# Altium schematic symbol library Maxim Amplifiers and Comparators.SchLib: 420 symbols (part 7 of 16)
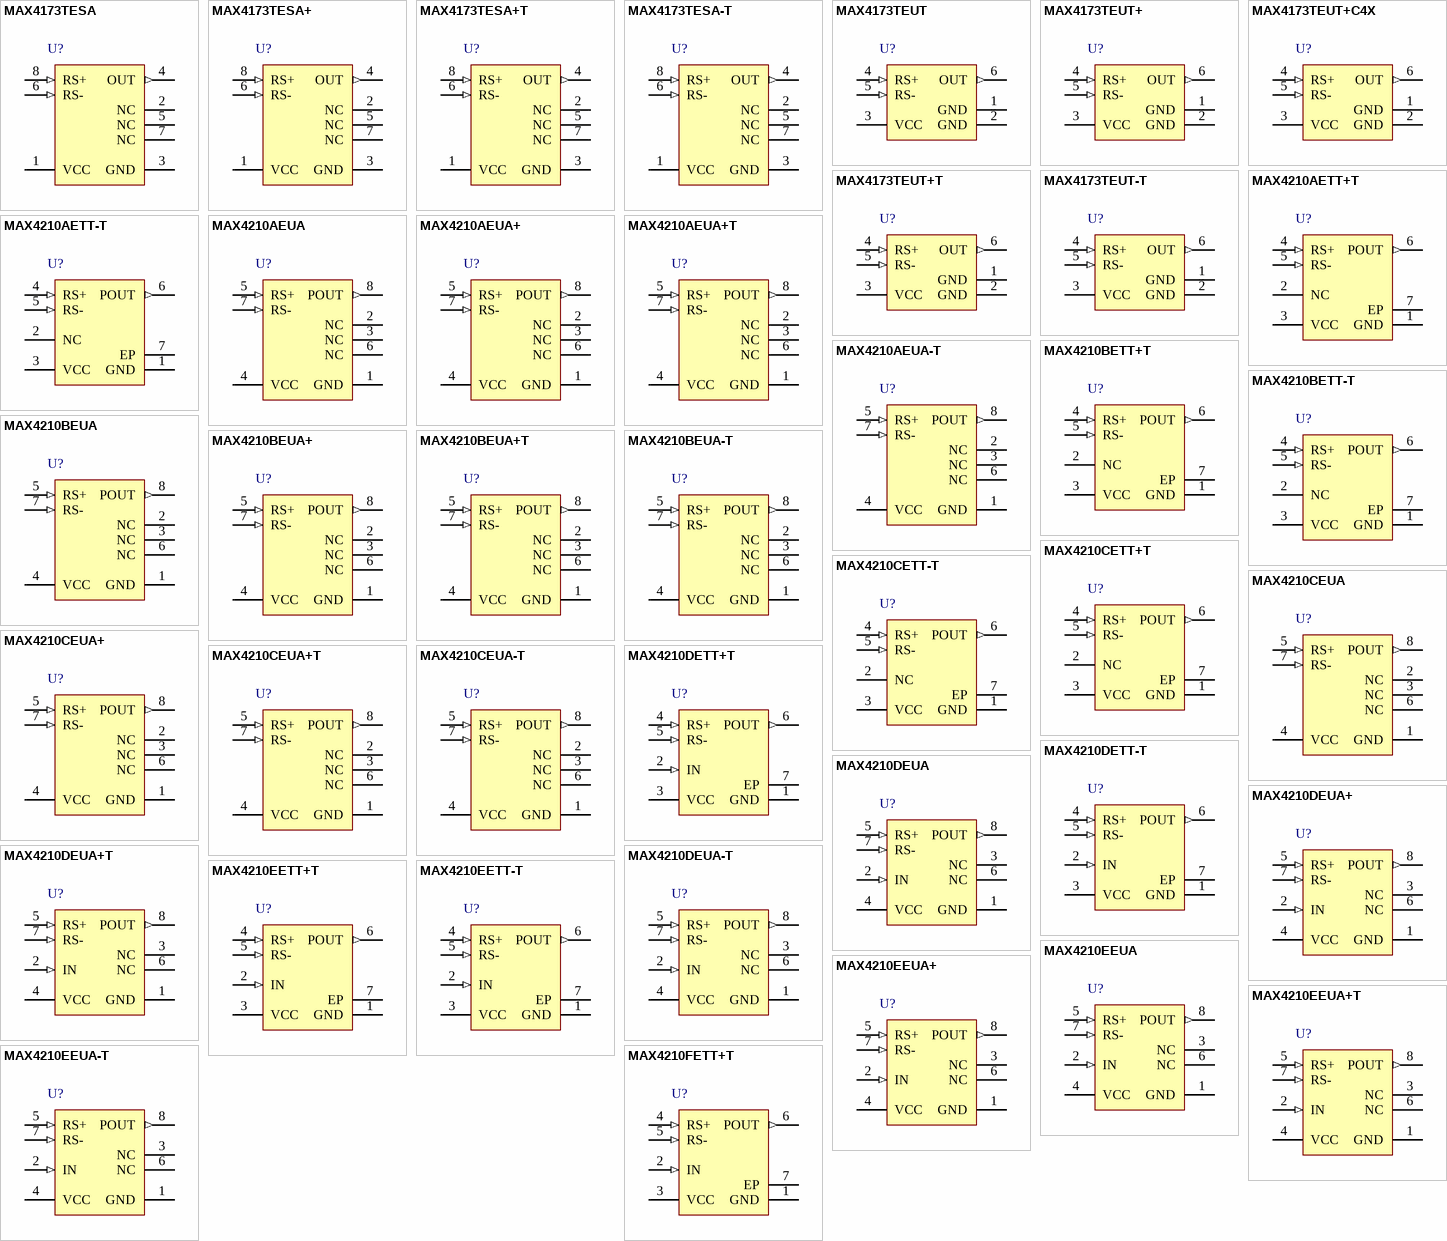
[diagram p16: symbols MAX4173TESA to MAX4210FETT+T]

## MAX4210EEUA-T
designator U?
High-Side, Power and Current Monitor, 25 V / V Gain, -40 to 85 degC, 8-Pin SOP (U8-1), Tape and Reel; Generic Part Number: MAX4210; PartNumber: MAX4210EEUA-T; Bi-Dir. Curr. Sense: No; Gain: 16.67 V/V, 25 V/V ,40.96 V/V; DatasheetVersion: Rev. 1; PackageVersion: Rev. L, 08/2009; PackageReference: U8-1; PackageDescription: 8-Pin Micro-MAX, Thin Shrink Small-Outline (U8-1), Body 3 x 3 mm, Pitch 0.65mm; Supplier 1: Digi-Key; Supplier Part Number 1: MAX4210EEUA-T-ND; Supplier 2: Mouser; Supplier Part Number 2: 700-MAX4210EEUA-T-NR; Packing: Tape and Reel; Mounting Technology: Surface Mount; Code_JEDEC: MO-187; ComponentLink1Description: Manufacturer URL; ComponentLink1URL: http://www.maximintegrated.com/; ComponentLink2Description: Datasheet; ComponentLink2URL: http://datasheets.maximintegrated.com/en/ds/MAX4210-MAX4211.pdf; ComponentLink3Description: Package Specification; ComponentLink3URL: http://pdfserv.maximintegrated.com/package_dwgs/21-0036.PDF
footprint MAXM-U8-1_N (SOP, 8-Leads, Body 3x3mm, Pitch 0.65mm, IPC Medium Density)
footprint MAXM-U8-1_L (SOP, 8-Leads, Body 3x3mm, Pitch 0.65mm, IPC High Density)
footprint MAXM-U8-1_M (SOP, 8-Leads, Body 3x3mm, Pitch 0.65mm, IPC Low Density)
pins: 1 GND (power) "Ground", 2 IN (in) "Multiplier Input Voltage. Voltage input for internal multiplier.", 3 NC "No Connection. Not internally connected.", 4 VCC (power) "Power-Supply Voltage. Connect a 0.1uF bypass capacitor from VCC to GND.", 5 RS+ (in) "Power Connection to External-Sense Resistor", 6 NC "No Connection. Not internally connected.", 7 RS- (in) "Load-Side Connection for External-Sense Resistor", 8 POUT (out) "Power Output Voltage. Voltage output proportional to source power (input voltage multiplied by load current)."

## MAX4210FETT+T
designator U?
High-Side, Power + Current Monitor, 40.96 V / V Gain, -40 to 85 degC, 6-Pin SON (T633+2), Pb-Free, Tape and Reel; Generic Part Number: MAX4210; PartNumber: MAX4210FETT+T; Bi-Dir. Curr. Sense: No; Gain: 16.67 V/V, 25 V/V ,40.96 V/V; DatasheetVersion: Rev. 1; PackageVersion: Rev. J, 08/2009; PackageReference: T633+2; PackageDescription: 6-Pin Plastic Very Very Thin Dual Flatpack No Leads, Exposed Pad, Body 3 x 3 mm, Exposed Pad 2.3 x 1.5 mm, Pitch 0.95 mm; Supplier 1: Digi-Key; Supplier Part Number 1: MAX4210FETT+T-ND; Supplier 2: Mouser; Supplier Part Number 2: 700-MAX4210FETTT; Packing: Tape and Reel; RoHS: Pb-Free; Mounting Technology: Surface Mount; Code_JEDEC: MO-229; ComponentLink1Description: Manufacturer URL; ComponentLink1URL: http://www.maximintegrated.com/; ComponentLink2Description: Datasheet; ComponentLink2URL: http://datasheets.maximintegrated.com/en/ds/MAX4210-MAX4211.pdf; ComponentLink3Description: Package Specification; ComponentLink3URL: http://pdfserv.maximintegrated.com/package_dwgs/21-0137.PDF
footprint MAXM-T633+2_V (SON, 6-Leads, Body 3x3mm, Pitch 0.95mm, Thermal Pad 2.3X1.5mm)
pins: 1 GND (power) "Ground", 2 IN (in) "Multiplier Input Voltage. Voltage input for internal multiplier.", 3 VCC (power) "Power-Supply Voltage. Connect a 0.1uF bypass capacitor from VCC to GND.", 4 RS+ (in) "Power Connection to External-Sense Resistor", 5 RS- (in) "Load-Side Connection for External-Sense Resistor", 6 POUT (out) "Power Output Voltage. Voltage output proportional to source power (input voltage multiplied by load current).", 7 EP (power) "Exposed Paddle. EP is internally connected to GND."

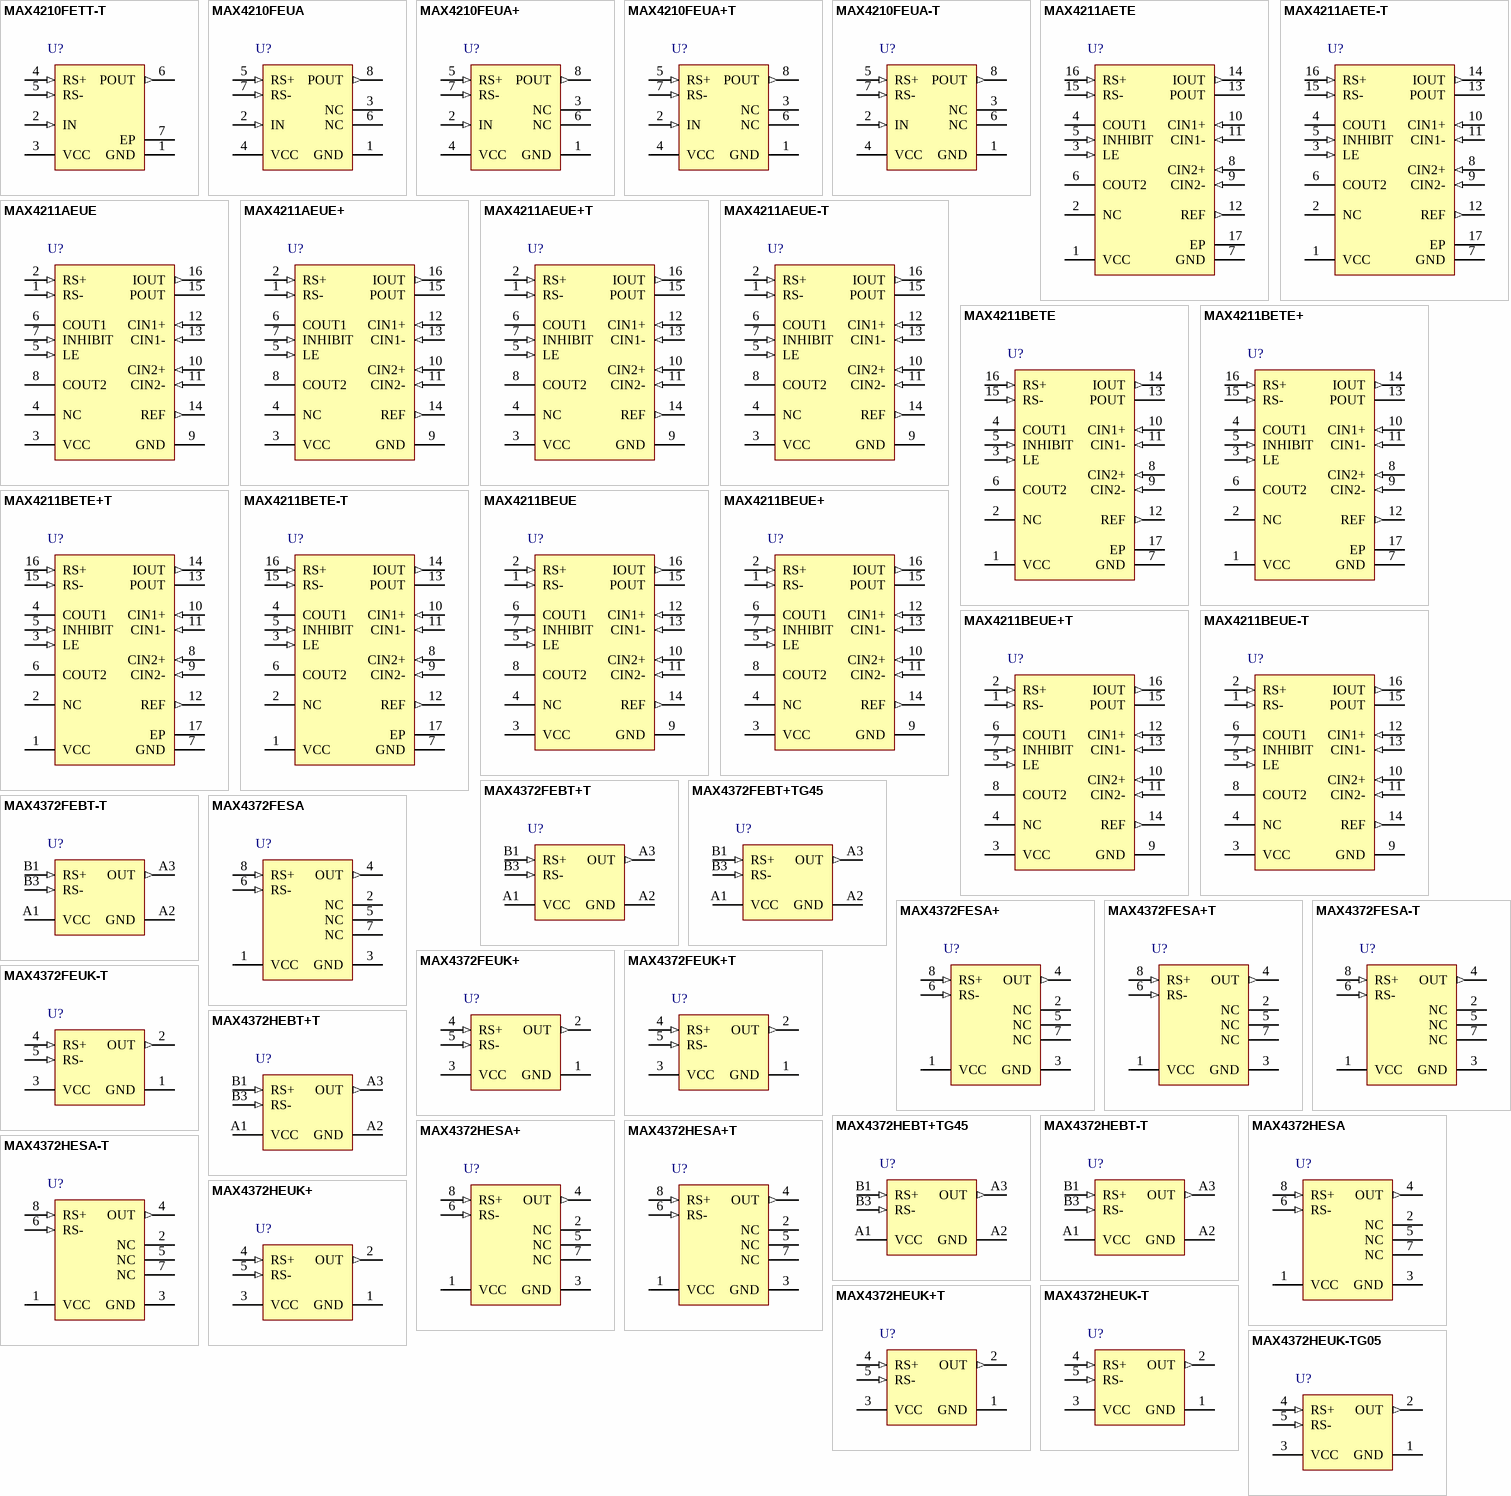
[diagram p4: symbols MAX4210FETT-T to MAX4372HEUK-TG05]

## MAX4210FETT-T
designator U?
High-Side, Power + Current Monitor, 40.96 V / V Gain, -40 to 85 degC, 6-Pin SON (T633-2), Tape and Reel; Generic Part Number: MAX4210; PartNumber: MAX4210FETT-T; Bi-Dir. Curr. Sense: No; Gain: 16.67 V/V, 25 V/V ,40.96 V/V; DatasheetVersion: Rev. 1; PackageVersion: Rev. J, 08/2009; PackageReference: T633-2; PackageDescription: 6-Pin Plastic Very Very Thin Dual Flatpack No Leads, Exposed Pad, Body 3 x 3 mm, Exposed Pad 2.3 x 1.5 mm, Pitch 0.95 mm; Supplier 1: Digi-Key; Supplier Part Number 1: MAX4210FETT-T-ND; Supplier 2: Mouser; Supplier Part Number 2: 700-MAX4210FETT-T-NR; Packing: Tape and Reel; Mounting Technology: Surface Mount; Code_JEDEC: MO-229; ComponentLink1Description: Manufacturer URL; ComponentLink1URL: http://www.maximintegrated.com/; ComponentLink2Description: Datasheet; ComponentLink2URL: http://datasheets.maximintegrated.com/en/ds/MAX4210-MAX4211.pdf; ComponentLink3Description: Package Specification; ComponentLink3URL: http://pdfserv.maximintegrated.com/package_dwgs/21-0137.PDF
footprint MAXM-T633-2_V (SON, 6-Leads, Body 3x3mm, Pitch 0.95mm, Thermal Pad 1.5x2.3mm)
pins: 1 GND (power) "Ground", 2 IN (in) "Multiplier Input Voltage. Voltage input for internal multiplier.", 3 VCC (power) "Power-Supply Voltage. Connect a 0.1uF bypass capacitor from VCC to GND.", 4 RS+ (in) "Power Connection to External-Sense Resistor", 5 RS- (in) "Load-Side Connection for External-Sense Resistor", 6 POUT (out) "Power Output Voltage. Voltage output proportional to source power (input voltage multiplied by load current).", 7 EP (power) "Exposed Paddle. EP is internally connected to GND."

## MAX4210FEUA
designator U?
High-Side, Power + Current Monitor, 40.96 V / V Gain, -40 to 85 degC, 8-Pin SOP (U8-1); Generic Part Number: MAX4210; PartNumber: MAX4210FEUA; Bi-Dir. Curr. Sense: No; Gain: 16.67 V/V, 25 V/V, 40.96 V/V; DatasheetVersion: Rev. 1; PackageVersion: Rev. L, 08/2009; PackageReference: U8-1; PackageDescription: 8-Pin Micro-MAX, Thin Shrink Small-Outline (U8-1), Body 3 x 3 mm, Pitch 0.65mm; Supplier 1: Digi-Key; Supplier Part Number 1: MAX4210FEUA-ND; Supplier 2: Mouser; Supplier Part Number 2: 700-MAX4210FEUA-NR; Mounting Technology: Surface Mount; Code_JEDEC: MO-187; ComponentLink1Description: Manufacturer URL; ComponentLink1URL: http://www.maximintegrated.com/; ComponentLink2Description: Datasheet; ComponentLink2URL: http://datasheets.maximintegrated.com/en/ds/MAX4210-MAX4211.pdf; ComponentLink3Description: Package Specification; ComponentLink3URL: http://pdfserv.maximintegrated.com/package_dwgs/21-0036.PDF
footprint MAXM-U8-1_N (SOP, 8-Leads, Body 3x3mm, Pitch 0.65mm, IPC Medium Density)
footprint MAXM-U8-1_L (SOP, 8-Leads, Body 3x3mm, Pitch 0.65mm, IPC High Density)
footprint MAXM-U8-1_M (SOP, 8-Leads, Body 3x3mm, Pitch 0.65mm, IPC Low Density)
pins: 1 GND (power) "Ground", 2 IN (in) "Multiplier Input Voltage. Voltage input for internal multiplier.", 3 NC "No Connection. Not internally connected.", 4 VCC (power) "Power-Supply Voltage. Connect a 0.1uF bypass capacitor from VCC to GND.", 5 RS+ (in) "Power Connection to External-Sense Resistor", 6 NC "No Connection. Not internally connected.", 7 RS- (in) "Load-Side Connection for External-Sense Resistor", 8 POUT (out) "Power Output Voltage. Voltage output proportional to source power (input voltage multiplied by load current)."

## MAX4210FEUA+
designator U?
High-Side, Power + Current Monitor, 40.96 V / V Gain, -40 to 85 degC, 8-Pin SOP (U8+1), Pb-Free; PartNumber: MAX4210FEUA+; Bi-Dir. Curr. Sense: No; Gain: 16.67 V/V, 25 V/V ,40.96 V/V; DatasheetVersion: Rev. 1; PackageVersion: Rev. L, 08/2009; PackageReference: U8+1; PackageDescription: 8-Pin Micro-MAX, Thin Shrink Small-Outline (U8+1), Body 3 x 3 mm, Pitch 0.65 mm; Supplier 1: Digi-Key; Supplier Part Number 1: MAX4210FEUA+-ND; Supplier 2: Mouser; Supplier Part Number 2: 700-MAX4210FEUA; Mounting Technology: Surface Mount; Code_JEDEC: MO-187; ComponentLink1Description: Manufacturer URL; ComponentLink1URL: http://www.maximintegrated.com/; ComponentLink2Description: Datasheet; ComponentLink2URL: http://datasheets.maximintegrated.com/en/ds/MAX4210-MAX4211.pdf; ComponentLink3Description: Package Specification; ComponentLink3URL: http://pdfserv.maximintegrated.com/package_dwgs/21-0036.PDF
footprint MAXM-U8+1_N (SOP, 8-Leads, Body 3x3mm, Pitch 0.65mm, IPC Medium Density)
footprint MAXM-U8+1_L (SOP, 8-Leads, Body 3x3mm, Pitch 0.65mm, IPC High Density)
footprint MAXM-U8+1_M (SOP, 8-Leads, Body 3x3mm, Pitch 0.65mm, IPC Low Density)
pins: 1 GND (power) "Ground", 2 IN (in) "Multiplier Input Voltage. Voltage input for internal multiplier.", 3 NC "No Connection. Not internally connected.", 4 VCC (power) "Power-Supply Voltage. Connect a 0.1uF bypass capacitor from VCC to GND.", 5 RS+ (in) "Power Connection to External-Sense Resistor", 6 NC "No Connection. Not internally connected.", 7 RS- (in) "Load-Side Connection for External-Sense Resistor", 8 POUT (out) "Power Output Voltage. Voltage output proportional to source power (input voltage multiplied by load current)."

## MAX4210FEUA+T
designator U?
High-Side, Power + Current Monitor, 40.96 V / V Gain, -40 to 85 degC, 8-Pin SOP (U8+1), Pb-Free, Tape and Reel; PartNumber: MAX4210FEUA+T; Bi-Dir. Curr. Sense: No; Gain: 16.67 V/V, 25 V/V ,40.96 V/V; DatasheetVersion: Rev. 1; PackageVersion: Rev. L, 08/2009; PackageReference: U8+1; PackageDescription: 8-Pin Micro-MAX, Thin Shrink Small-Outline (U8+1), Body 3 x 3 mm, Pitch 0.65 mm; Supplier 1: Digi-Key; Supplier Part Number 1: MAX4210FEUA+T-ND; Supplier 2: Mouser; Supplier Part Number 2: 700-MAX4210FEUAT; Mounting Technology: Surface Mount; Code_JEDEC: MO-187; ComponentLink1Description: Manufacturer URL; ComponentLink1URL: http://www.maximintegrated.com/; ComponentLink2Description: Datasheet; ComponentLink2URL: http://datasheets.maximintegrated.com/en/ds/MAX4210-MAX4211.pdf; ComponentLink3Description: Package Specification; ComponentLink3URL: http://pdfserv.maximintegrated.com/package_dwgs/21-0036.PDF
footprint MAXM-U8+1_N (SOP, 8-Leads, Body 3x3mm, Pitch 0.65mm, IPC Medium Density)
footprint MAXM-U8+1_L (SOP, 8-Leads, Body 3x3mm, Pitch 0.65mm, IPC High Density)
footprint MAXM-U8+1_M (SOP, 8-Leads, Body 3x3mm, Pitch 0.65mm, IPC Low Density)
pins: 1 GND (power) "Ground", 2 IN (in) "Multiplier Input Voltage. Voltage input for internal multiplier.", 3 NC "No Connection. Not internally connected.", 4 VCC (power) "Power-Supply Voltage. Connect a 0.1uF bypass capacitor from VCC to GND.", 5 RS+ (in) "Power Connection to External-Sense Resistor", 6 NC "No Connection. Not internally connected.", 7 RS- (in) "Load-Side Connection for External-Sense Resistor", 8 POUT (out) "Power Output Voltage. Voltage output proportional to source power (input voltage multiplied by load current)."

## MAX4210FEUA-T
designator U?
High-Side, Power + Current Monitor, 40.96 V / V Gain, -40 to 85 degC, 8-Pin SOP (U8-1), Tape and Reel; PartNumber: MAX4210FEUA-T; Bi-Dir. Curr. Sense: No; Gain: 16.67 V/V, 25 V/V ,40.96 V/V; DatasheetVersion: Rev. 1; PackageVersion: Rev. L, 08/2009; PackageReference: U8-1; PackageDescription: 8-Pin Micro-MAX, Thin Shrink Small-Outline (U8-1), Body 3 x 3 mm, Pitch 0.65mm; Supplier 1: Digi-Key; Supplier Part Number 1: MAX4210FEUA-T-ND; Supplier 2: Mouser; Supplier Part Number 2: 700-MAX4210FEUA-T-NR; Mounting Technology: Surface Mount; Code_JEDEC: MO-187; ComponentLink1Description: Manufacturer URL; ComponentLink1URL: http://www.maximintegrated.com/; ComponentLink2Description: Datasheet; ComponentLink2URL: http://datasheets.maximintegrated.com/en/ds/MAX4210-MAX4211.pdf; ComponentLink3Description: Package Specification; ComponentLink3URL: http://pdfserv.maximintegrated.com/package_dwgs/21-0036.PDF
footprint MAXM-U8-1_N (SOP, 8-Leads, Body 3x3mm, Pitch 0.65mm, IPC Medium Density)
footprint MAXM-U8-1_L (SOP, 8-Leads, Body 3x3mm, Pitch 0.65mm, IPC High Density)
footprint MAXM-U8-1_M (SOP, 8-Leads, Body 3x3mm, Pitch 0.65mm, IPC Low Density)
pins: 1 GND (power) "Ground", 2 IN (in) "Multiplier Input Voltage. Voltage input for internal multiplier.", 3 NC "No Connection. Not internally connected.", 4 VCC (power) "Power-Supply Voltage. Connect a 0.1uF bypass capacitor from VCC to GND.", 5 RS+ (in) "Power Connection to External-Sense Resistor", 6 NC "No Connection. Not internally connected.", 7 RS- (in) "Load-Side Connection for External-Sense Resistor", 8 POUT (out) "Power Output Voltage. Voltage output proportional to source power (input voltage multiplied by load current)."

## MAX4211AETE
designator U?
High-Side, Power + Current Monitor with 2 Comparators + Reference, 16.67 V / V Gain, -40 to 85 degC, 16-Pin QFN (T1644-4); PartNumber: MAX4211AETE; Bi-Dir. Curr. Sense: No; Gain: 16.67 V/V, 25 V/V ,40.96 V/V; DatasheetVersion: Rev. 1; PackageVersion: Rev. L, 04/2012; PackageReference: T1644-4; PackageDescription: 16-Pin Thin Quad Flatpack, No Leads (T1644-4), Body 4 x 4 mm, Pitch 0.65 mm; Supplier 1: Digi-Key; Supplier Part Number 1: MAX4211AETE-ND; Supplier 2: Mouser; Supplier Part Number 2: 700-MAX4211AETE-; Mounting Technology: Surface Mount; Code_JEDEC: MO220; ComponentLink1Description: Manufacturer URL; ComponentLink1URL: http://www.maximintegrated.com/; ComponentLink2Description: Datasheet; ComponentLink2URL: http://datasheets.maximintegrated.com/en/ds/MAX4210-MAX4211.pdf; ComponentLink3Description: Package Specification; ComponentLink3URL: http://pdfserv.maximintegrated.com/package_dwgs/21-0139.PDF
footprint MAXM-T1644-4_N (QFN, 16-Leads, Body 4x4mm, Pitch 0.65mm, Thermal Pad 2.1x2.1mm, IPC Medium Density)
footprint MAXM-T1644-4_L (QFN, 16-Leads, Body 4x4mm, Pitch 0.65mm, Thermal Pad 2.1x2.1mm, IPC High Density)
footprint MAXM-T1644-4_M (QFN, 16-Leads, Body 4x4mm, Pitch 0.65mm, Thermal Pad 2.1x2.1mm, IPC Low Density)
pins: 1 VCC (power) "Power-Supply Voltage. Connect a 0.1µF bypass capacitor from VCC to GND.", 2 NC "No Connection. Not internally connected.", 3 LE (in) "Latch Enable for Comparator 1. Driving logic low makes the comparator transparent (regular comparator). Driving logic high latches the output.", 4 COUT1 (oc) "Open- Drain Comparator 1 Output. LE  and  INHIBIT control  the comparator 1 output.", 5 INHIBIT (in) "INHIBIT for Comparator 1 Output. Driving logic high inhibits the comparator operation. Drive logic low for normal operation.", 6 COUT2 (oc) "Open-Drain Comparator 2 Output", 7 GND (power) "Ground", 8 CIN2+ (in) "Comparator 2 Positive Input", 9 CIN2- (in) "Comparator 2 Negative Input", 10 CIN1+ (in) "Comparator 1 Positive Input", 11 CIN1- (in) "Comparator 1 Negative Input", 12 REF (out) "1.21V Internal Reference Output", 13 POUT (power) "Power Output Voltage. Voltage output proportional to source power (input voltage multiplied by load current).", 14 IOUT (out) "Current Output Voltage. Voltage output proportional to VSENSE (VRS+ - VRS-) load current.", 15 RS- (in) "Load-Side Connection for External-Sense Resistor", 16 RS+ (in) "Power Connection to External-Sense Resistor and Internal Resistor-Divider", 17 EP (power) "Exposed Paddle. EP is internally connected to GND."

## MAX4211AETE-T
designator U?
High-Side, Power + Current Monitor with 2 Comparators + Reference, 16.67 V / V Gain, -40 to 85 degC, 16-Pin QFN (T1644-4), Tape and Reel; PartNumber: MAX4211AETE-T; Bi-Dir. Curr. Sense: No; Gain: 16.67 V/V, 25 V/V ,40.96 V/V; DatasheetVersion: Rev. 1; PackageVersion: Rev. L, 04/2012; PackageReference: T1644-4; PackageDescription: 16-Pin Thin Quad Flatpack, No Leads (T1644-4), Body 4 x 4 mm, Pitch 0.65 mm; Supplier 1: Digi-Key; Supplier Part Number 1: MAX4211AETE-T-ND; Supplier 2: Mouser; Supplier Part Number 2: 700-MAX4211AETE-T-; Mounting Technology: Surface Mount; Code_JEDEC: MO220; ComponentLink1Description: Manufacturer URL; ComponentLink1URL: http://www.maximintegrated.com/; ComponentLink2Description: Datasheet; ComponentLink2URL: http://datasheets.maximintegrated.com/en/ds/MAX4210-MAX4211.pdf; ComponentLink3Description: Package Specification; ComponentLink3URL: http://pdfserv.maximintegrated.com/package_dwgs/21-0139.PDF
footprint MAXM-T1644-4_N (QFN, 16-Leads, Body 4x4mm, Pitch 0.65mm, Thermal Pad 2.1x2.1mm, IPC Medium Density)
footprint MAXM-T1644-4_L (QFN, 16-Leads, Body 4x4mm, Pitch 0.65mm, Thermal Pad 2.1x2.1mm, IPC High Density)
footprint MAXM-T1644-4_M (QFN, 16-Leads, Body 4x4mm, Pitch 0.65mm, Thermal Pad 2.1x2.1mm, IPC Low Density)
pins: 1 VCC (power) "Power-Supply Voltage. Connect a 0.1µF bypass capacitor from VCC to GND.", 2 NC "No Connection. Not internally connected.", 3 LE (in) "Latch Enable for Comparator 1. Driving logic low makes the comparator transparent (regular comparator). Driving logic high latches the output.", 4 COUT1 (oc) "Open- Drain Comparator 1 Output. LE  and  INHIBIT control  the comparator 1 output.", 5 INHIBIT (in) "INHIBIT for Comparator 1 Output. Driving logic high inhibits the comparator operation. Drive logic low for normal operation.", 6 COUT2 (oc) "Open-Drain Comparator 2 Output", 7 GND (power) "Ground", 8 CIN2+ (in) "Comparator 2 Positive Input", 9 CIN2- (in) "Comparator 2 Negative Input", 10 CIN1+ (in) "Comparator 1 Positive Input", 11 CIN1- (in) "Comparator 1 Negative Input", 12 REF (out) "1.21V Internal Reference Output", 13 POUT (power) "Power Output Voltage. Voltage output proportional to source power (input voltage multiplied by load current).", 14 IOUT (out) "Current Output Voltage. Voltage output proportional to VSENSE (VRS+ - VRS-) load current.", 15 RS- (in) "Load-Side Connection for External-Sense Resistor", 16 RS+ (in) "Power Connection to External-Sense Resistor and Internal Resistor-Divider", 17 EP (power) "Exposed Paddle. EP is internally connected to GND."

## MAX4211AEUE
designator U?
High-Side, Power and Current Monitor with 2 Comparators and Reference, 16.67 V / V Gain, -40 to 85 degC, 16-Pin SOP (U16-2); PartNumber: MAX4211AEUE; Bi-Dir. Curr. Sense: No; Gain: 16.67 V/V, 25 V/V ,40.96 V/V; DatasheetVersion: Rev. 1; PackageVersion: Rev. L, 07/2010; PackageReference: U16-2; PackageDescription: 16-Pin Thin Shrink Small-Outline Package, Body 4.4 x 5 mm, Pitch 0.65 mm; Supplier 1: Digi-Key; Supplier Part Number 1: MAX4211AEUE-ND; Supplier 2: Mouser; Supplier Part Number 2: 700-MAX4211AEUE-NR; Mounting Technology: Surface Mount; Code_JEDEC: MO-153; ComponentLink1Description: Manufacturer URL; ComponentLink1URL: http://www.maximintegrated.com/; ComponentLink2Description: Datasheet; ComponentLink2URL: http://datasheets.maximintegrated.com/en/ds/MAX4210-MAX4211.pdf; ComponentLink3Description: Package Specification; ComponentLink3URL: http://pdfserv.maximintegrated.com/package_dwgs/21-0066.PDF
footprint MAXM-U16-2_N (SOP, 16-Leads, Body 5x4.4mm, Pitch 0.65mm, IPC Medium Density)
footprint MAXM-U16-2_L (SOP, 16-Leads, Body 5x4.4mm, Pitch 0.65mm, IPC High Density)
footprint MAXM-U16-2_M (SOP, 16-Leads, Body 5x4.4mm, Pitch 0.65mm, IPC Low Density)
pins: 1 RS- (in) "Load-Side Connection for External-Sense Resistor", 2 RS+ (in) "Power Connection to External-Sense Resistor and Internal Resistor-Divider", 3 VCC (power) "Power-Supply Voltage. Connect a 0.1µF bypass capacitor from VCC to GND.", 4 NC "No Connection. Not internally connected.", 5 LE (in) "Latch Enable for Comparator 1. Driving logic low makes the comparator transparent (regular comparator). Driving logic high latches the output.", 6 COUT1 (oc) "Open- Drain Comparator 1 Output. LE  and  INHIBIT control  the comparator 1 output.", 7 INHIBIT (in) "INHIBIT for Comparator 1 Output. Driving logic high inhibits the comparator operation. Drive logic low for normal operation.", 8 COUT2 (oc) "Open-Drain Comparator 2 Output", 9 GND (power) "Ground", 10 CIN2+ (in) "Comparator 2 Positive Input", 11 CIN2- (in) "Comparator 2 Negative Input", 12 CIN1+ (in) "Comparator 1 Positive Input", 13 CIN1- (in) "Comparator 1 Negative Input", 14 REF (out) "1.21V Internal Reference Output", 15 POUT (power) "Power Output Voltage. Voltage output proportional to source power (input voltage multiplied by load current).", 16 IOUT (out) "Current Output Voltage. Voltage output proportional to VSENSE (VRS+ - VRS-) load current."

## MAX4211AEUE+
designator U?
High-Side, Power + Current Monitor with 2 Comparators + Reference, 16.67 V / V Gain, -40 to 85 degC, 16-Pin SOP (U16+2), Pb-Free; PartNumber: MAX4211AEUE+; Bi-Dir. Curr. Sense: No; Gain: 16.67 V/V, 25 V/V ,40.96 V/V; DatasheetVersion: Rev. 1; PackageVersion: Rev. L, 07/2010; PackageReference: U16+2; PackageDescription: 16-Pin Thin Shrink Small-Outline Package (U16+2), Body 5 x 4.4 mm, Pitch 0.65 mm; Supplier 1: Digi-Key; Supplier Part Number 1: MAX4211AEUE+-ND; Supplier 2: Farnell; Supplier Part Number 2: 2212273; Supplier 3: Newark; Supplier Part Number 3: 45W6316; Supplier 4: Mouser; Supplier Part Number 4: 700-MAX4211AEUE; Mounting Technology: Surface Mount; Code_JEDEC: MO-153; ComponentLink1Description: Manufacturer URL; ComponentLink1URL: http://www.maximintegrated.com/; ComponentLink2Description: Datasheet; ComponentLink2URL: http://datasheets.maximintegrated.com/en/ds/MAX4210-MAX4211.pdf; ComponentLink3Description: Package Specification; ComponentLink3URL: http://pdfserv.maximintegrated.com/package_dwgs/21-0066.PDF
footprint MAXM-U16+2_N (SOP, 16-Leads, Body 5x4.4mm, Pitch 0.65mm, IPC Medium Density)
footprint MAXM-U16+2_L (SOP, 16-Leads, Body 5x4.4mm, Pitch 0.65mm, IPC High Density)
footprint MAXM-U16+2_M (SOP, 16-Leads, Body 5x4.4mm, Pitch 0.65mm, IPC Low Density)
pins: 1 RS- (in) "Load-Side Connection for External-Sense Resistor", 2 RS+ (in) "Power Connection to External-Sense Resistor and Internal Resistor-Divider", 3 VCC (power) "Power-Supply Voltage. Connect a 0.1µF bypass capacitor from VCC to GND.", 4 NC "No Connection. Not internally connected.", 5 LE (in) "Latch Enable for Comparator 1. Driving logic low makes the comparator transparent (regular comparator). Driving logic high latches the output.", 6 COUT1 (oc) "Open- Drain Comparator 1 Output. LE  and  INHIBIT control  the comparator 1 output.", 7 INHIBIT (in) "INHIBIT for Comparator 1 Output. Driving logic high inhibits the comparator operation. Drive logic low for normal operation.", 8 COUT2 (oc) "Open-Drain Comparator 2 Output", 9 GND (power) "Ground", 10 CIN2+ (in) "Comparator 2 Positive Input", 11 CIN2- (in) "Comparator 2 Negative Input", 12 CIN1+ (in) "Comparator 1 Positive Input", 13 CIN1- (in) "Comparator 1 Negative Input", 14 REF (out) "1.21V Internal Reference Output", 15 POUT (power) "Power Output Voltage. Voltage output proportional to source power (input voltage multiplied by load current).", 16 IOUT (out) "Current Output Voltage. Voltage output proportional to VSENSE (VRS+ - VRS-) load current."

## MAX4211AEUE+T
designator U?
High-Side, Power + Current Monitor with 2 Comparators + Reference, 16.67 V / V Gain, -40 to 85 degC, 16-Pin SOP (U16+2), Pb-Free, Tape and Reel; PartNumber: MAX4211AEUE+T; Bi-Dir. Curr. Sense: No; Gain: 16.67 V/V, 25 V/V ,40.96 V/V; DatasheetVersion: Rev. 1; PackageVersion: Rev. L, 07/2010; PackageReference: U16+2; PackageDescription: 16-Pin Thin Shrink Small-Outline Package (U16+2), Body 5 x 4.4 mm, Pitch 0.65 mm; Supplier 1: Digi-Key; Supplier Part Number 1: MAX4211AEUE+T-ND; Supplier 2: Mouser; Supplier Part Number 2: 700-MAX4211AEUET; Mounting Technology: Surface Mount; Code_JEDEC: MO-153; ComponentLink1Description: Manufacturer URL; ComponentLink1URL: http://www.maximintegrated.com/; ComponentLink2Description: Datasheet; ComponentLink2URL: http://datasheets.maximintegrated.com/en/ds/MAX4210-MAX4211.pdf; ComponentLink3Description: Package Specification; ComponentLink3URL: http://pdfserv.maximintegrated.com/package_dwgs/21-0066.PDF
footprint MAXM-U16+2_N (SOP, 16-Leads, Body 5x4.4mm, Pitch 0.65mm, IPC Medium Density)
footprint MAXM-U16+2_L (SOP, 16-Leads, Body 5x4.4mm, Pitch 0.65mm, IPC High Density)
footprint MAXM-U16+2_M (SOP, 16-Leads, Body 5x4.4mm, Pitch 0.65mm, IPC Low Density)
pins: 1 RS- (in) "Load-Side Connection for External-Sense Resistor", 2 RS+ (in) "Power Connection to External-Sense Resistor and Internal Resistor-Divider", 3 VCC (power) "Power-Supply Voltage. Connect a 0.1µF bypass capacitor from VCC to GND.", 4 NC "No Connection. Not internally connected.", 5 LE (in) "Latch Enable for Comparator 1. Driving logic low makes the comparator transparent (regular comparator). Driving logic high latches the output.", 6 COUT1 (oc) "Open- Drain Comparator 1 Output. LE  and  INHIBIT control  the comparator 1 output.", 7 INHIBIT (in) "INHIBIT for Comparator 1 Output. Driving logic high inhibits the comparator operation. Drive logic low for normal operation.", 8 COUT2 (oc) "Open-Drain Comparator 2 Output", 9 GND (power) "Ground", 10 CIN2+ (in) "Comparator 2 Positive Input", 11 CIN2- (in) "Comparator 2 Negative Input", 12 CIN1+ (in) "Comparator 1 Positive Input", 13 CIN1- (in) "Comparator 1 Negative Input", 14 REF (out) "1.21V Internal Reference Output", 15 POUT (power) "Power Output Voltage. Voltage output proportional to source power (input voltage multiplied by load current).", 16 IOUT (out) "Current Output Voltage. Voltage output proportional to VSENSE (VRS+ - VRS-) load current."

## MAX4211AEUE-T
designator U?
High-Side, Power + Current Monitor with 2 Comparators + Reference, 16.67 V / V Gain, -40 to 85 degC, 16-Pin SOP (U16-2), Tape and Reel; PartNumber: MAX4211AEUE-T; Bi-Dir. Curr. Sense: No; Gain: 16.67 V/V, 25 V/V ,40.96 V/V; DatasheetVersion: Rev. 1; PackageVersion: Rev. L, 07/2010; PackageReference: U16-2; PackageDescription: 16-Pin Thin Shrink Small-Outline Package, Body 4.4 x 5 mm, Pitch 0.65 mm; Supplier 1: Digi-Key; Supplier Part Number 1: MAX4211AEUE-T-ND; Supplier 2: Mouser; Supplier Part Number 2: 700-MAX4211AEUE-T-NR; Mounting Technology: Surface Mount; Code_JEDEC: MO-153; ComponentLink1Description: Manufacturer URL; ComponentLink1URL: http://www.maximintegrated.com/; ComponentLink2Description: Datasheet; ComponentLink2URL: http://datasheets.maximintegrated.com/en/ds/MAX4210-MAX4211.pdf; ComponentLink3Description: Package Specification; ComponentLink3URL: http://pdfserv.maximintegrated.com/package_dwgs/21-0066.PDF
footprint MAXM-U16-2_N (SOP, 16-Leads, Body 5x4.4mm, Pitch 0.65mm, IPC Medium Density)
footprint MAXM-U16-2_L (SOP, 16-Leads, Body 5x4.4mm, Pitch 0.65mm, IPC High Density)
footprint MAXM-U16-2_M (SOP, 16-Leads, Body 5x4.4mm, Pitch 0.65mm, IPC Low Density)
pins: 1 RS- (in) "Load-Side Connection for External-Sense Resistor", 2 RS+ (in) "Power Connection to External-Sense Resistor and Internal Resistor-Divider", 3 VCC (power) "Power-Supply Voltage. Connect a 0.1µF bypass capacitor from VCC to GND.", 4 NC "No Connection. Not internally connected.", 5 LE (in) "Latch Enable for Comparator 1. Driving logic low makes the comparator transparent (regular comparator). Driving logic high latches the output.", 6 COUT1 (oc) "Open- Drain Comparator 1 Output. LE  and  INHIBIT control  the comparator 1 output.", 7 INHIBIT (in) "INHIBIT for Comparator 1 Output. Driving logic high inhibits the comparator operation. Drive logic low for normal operation.", 8 COUT2 (oc) "Open-Drain Comparator 2 Output", 9 GND (power) "Ground", 10 CIN2+ (in) "Comparator 2 Positive Input", 11 CIN2- (in) "Comparator 2 Negative Input", 12 CIN1+ (in) "Comparator 1 Positive Input", 13 CIN1- (in) "Comparator 1 Negative Input", 14 REF (out) "1.21V Internal Reference Output", 15 POUT (power) "Power Output Voltage. Voltage output proportional to source power (input voltage multiplied by load current).", 16 IOUT (out) "Current Output Voltage. Voltage output proportional to VSENSE (VRS+ - VRS-) load current."

## MAX4211BETE
designator U?
High-Side, Power + Current Monitor with 2 Comparators + Reference, 25 V / V Gain, -40 to 85 degC, 16-Pin QFN (T1644-4); PartNumber: MAX4211BETE; Bi-Dir. Curr. Sense: No; Gain: 16.67 V/V, 25 V/V ,40.96 V/V; DatasheetVersion: Rev. 1; PackageVersion: Rev. L, 04/2012; PackageReference: T1644-4; PackageDescription: 16-Pin Thin Quad Flatpack, No Leads (T1644-4), Body 4 x 4 mm, Pitch 0.65 mm; Supplier 1: Digi-Key; Supplier Part Number 1: MAX4211BETE-ND; Supplier 2: Mouser; Supplier Part Number 2: 700-MAX4211BETE-; Mounting Technology: Surface Mount; Code_JEDEC: MO220; ComponentLink1Description: Manufacturer URL; ComponentLink1URL: http://www.maximintegrated.com/; ComponentLink2Description: Datasheet; ComponentLink2URL: http://datasheets.maximintegrated.com/en/ds/MAX4210-MAX4211.pdf; ComponentLink3Description: Package Specification; ComponentLink3URL: http://pdfserv.maximintegrated.com/package_dwgs/21-0139.PDF
footprint MAXM-T1644-4_N (QFN, 16-Leads, Body 4x4mm, Pitch 0.65mm, Thermal Pad 2.1x2.1mm, IPC Medium Density)
footprint MAXM-T1644-4_L (QFN, 16-Leads, Body 4x4mm, Pitch 0.65mm, Thermal Pad 2.1x2.1mm, IPC High Density)
footprint MAXM-T1644-4_M (QFN, 16-Leads, Body 4x4mm, Pitch 0.65mm, Thermal Pad 2.1x2.1mm, IPC Low Density)
pins: 1 VCC (power) "Power-Supply Voltage. Connect a 0.1µF bypass capacitor from VCC to GND.", 2 NC "No Connection. Not internally connected.", 3 LE (in) "Latch Enable for Comparator 1. Driving logic low makes the comparator transparent (regular comparator). Driving logic high latches the output.", 4 COUT1 (oc) "Open- Drain Comparator 1 Output. LE  and  INHIBIT control  the comparator 1 output.", 5 INHIBIT (in) "INHIBIT for Comparator 1 Output. Driving logic high inhibits the comparator operation. Drive logic low for normal operation.", 6 COUT2 (oc) "Open-Drain Comparator 2 Output", 7 GND (power) "Ground", 8 CIN2+ (in) "Comparator 2 Positive Input", 9 CIN2- (in) "Comparator 2 Negative Input", 10 CIN1+ (in) "Comparator 1 Positive Input", 11 CIN1- (in) "Comparator 1 Negative Input", 12 REF (out) "1.21V Internal Reference Output", 13 POUT (power) "Power Output Voltage. Voltage output proportional to source power (input voltage multiplied by load current).", 14 IOUT (out) "Current Output Voltage. Voltage output proportional to VSENSE (VRS+ - VRS-) load current.", 15 RS- (in) "Load-Side Connection for External-Sense Resistor", 16 RS+ (in) "Power Connection to External-Sense Resistor and Internal Resistor-Divider", 17 EP (power) "Exposed Paddle. EP is internally connected to GND."

## MAX4211BETE+
designator U?
High-Side, Power + Current Monitor with 2 Comparators + Reference, 25 V / V Gain, -40 to 85 degC, 16-Pin QFN (T1644+4), Pb-Free,; PartNumber: MAX4211BETE+; Bi-Dir. Curr. Sense: No; Gain: 16.67 V/V, 25 V/V ,40.96 V/V; DatasheetVersion: Rev. 1; PackageVersion: Rev. L, 04/2012; PackageReference: T1644+4; PackageDescription: 16-Pin Thin Quad Flatpack, No Leads (T1644+4), Body 4 x 4 mm, Pitch 0.65 mm; Supplier 1: Digi-Key; Supplier Part Number 1: MAX4211BETE+-ND; Supplier 2: Mouser; Supplier Part Number 2: 700-MAX4211BETE+; Mounting Technology: Surface Mount; Code_JEDEC: MO220; ComponentLink1Description: Manufacturer URL; ComponentLink1URL: http://www.maximintegrated.com/; ComponentLink2Description: Datasheet; ComponentLink2URL: http://datasheets.maximintegrated.com/en/ds/MAX4210-MAX4211.pdf; ComponentLink3Description: Package Specification; ComponentLink3URL: http://pdfserv.maximintegrated.com/package_dwgs/21-0139.PDF
footprint MAXM-T1644+4_N (QFN, 16-Leads, Body 4x4mm, Pitch 0.65mm, Thermal Pad 2.1x2.1mm, IPC Medium Density)
footprint MAXM-T1644+4_L (QFN, 16-Leads, Body 4x4mm, Pitch 0.65mm, Thermal Pad 2.1x2.1mm, IPC High Density)
footprint MAXM-T1644+4_M (QFN, 16-Leads, Body 4x4mm, Pitch 0.65mm, Thermal Pad 2.1x2.1mm, IPC Low Density)
pins: 1 VCC (power) "Power-Supply Voltage. Connect a 0.1µF bypass capacitor from VCC to GND.", 2 NC "No Connection. Not internally connected.", 3 LE (in) "Latch Enable for Comparator 1. Driving logic low makes the comparator transparent (regular comparator). Driving logic high latches the output.", 4 COUT1 (oc) "Open- Drain Comparator 1 Output. LE  and  INHIBIT control  the comparator 1 output.", 5 INHIBIT (in) "INHIBIT for Comparator 1 Output. Driving logic high inhibits the comparator operation. Drive logic low for normal operation.", 6 COUT2 (oc) "Open-Drain Comparator 2 Output", 7 GND (power) "Ground", 8 CIN2+ (in) "Comparator 2 Positive Input", 9 CIN2- (in) "Comparator 2 Negative Input", 10 CIN1+ (in) "Comparator 1 Positive Input", 11 CIN1- (in) "Comparator 1 Negative Input", 12 REF (out) "1.21V Internal Reference Output", 13 POUT (power) "Power Output Voltage. Voltage output proportional to source power (input voltage multiplied by load current).", 14 IOUT (out) "Current Output Voltage. Voltage output proportional to VSENSE (VRS+ - VRS-) load current.", 15 RS- (in) "Load-Side Connection for External-Sense Resistor", 16 RS+ (in) "Power Connection to External-Sense Resistor and Internal Resistor-Divider", 17 EP (power) "Exposed Paddle. EP is internally connected to GND."

## MAX4211BETE+T
designator U?
High-Side, Power + Current Monitor with 2 Comparators + Reference, 25 V / V Gain, -40 to 85 degC, 16-Pin QFN (T1644+4), Pb-Free, Tape and Reel; PartNumber: MAX4211BETE+T; Bi-Dir. Curr. Sense: No; Gain: 16.67 V/V, 25 V/V ,40.96 V/V; DatasheetVersion: Rev. 1; PackageVersion: Rev. L, 04/2012; PackageReference: T1644+4; PackageDescription: 16-Pin Thin Quad Flatpack, No Leads (T1644+4), Body 4 x 4 mm, Pitch 0.65 mm; Supplier 1: Digi-Key; Supplier Part Number 1: MAX4211BETE+T-ND; Supplier 2: Mouser; Supplier Part Number 2: 700-MAX4211BETE+T; Mounting Technology: Surface Mount; Code_JEDEC: MO220; ComponentLink1Description: Manufacturer URL; ComponentLink1URL: http://www.maximintegrated.com/; ComponentLink2Description: Datasheet; ComponentLink2URL: http://datasheets.maximintegrated.com/en/ds/MAX4210-MAX4211.pdf; ComponentLink3Description: Package Specification; ComponentLink3URL: http://pdfserv.maximintegrated.com/package_dwgs/21-0139.PDF
footprint MAXM-T1644+4_N (QFN, 16-Leads, Body 4x4mm, Pitch 0.65mm, Thermal Pad 2.1x2.1mm, IPC Medium Density)
footprint MAXM-T1644+4_L (QFN, 16-Leads, Body 4x4mm, Pitch 0.65mm, Thermal Pad 2.1x2.1mm, IPC High Density)
footprint MAXM-T1644+4_M (QFN, 16-Leads, Body 4x4mm, Pitch 0.65mm, Thermal Pad 2.1x2.1mm, IPC Low Density)
pins: 1 VCC (power) "Power-Supply Voltage. Connect a 0.1µF bypass capacitor from VCC to GND.", 2 NC "No Connection. Not internally connected.", 3 LE (in) "Latch Enable for Comparator 1. Driving logic low makes the comparator transparent (regular comparator). Driving logic high latches the output.", 4 COUT1 (oc) "Open- Drain Comparator 1 Output. LE  and  INHIBIT control  the comparator 1 output.", 5 INHIBIT (in) "INHIBIT for Comparator 1 Output. Driving logic high inhibits the comparator operation. Drive logic low for normal operation.", 6 COUT2 (oc) "Open-Drain Comparator 2 Output", 7 GND (power) "Ground", 8 CIN2+ (in) "Comparator 2 Positive Input", 9 CIN2- (in) "Comparator 2 Negative Input", 10 CIN1+ (in) "Comparator 1 Positive Input", 11 CIN1- (in) "Comparator 1 Negative Input", 12 REF (out) "1.21V Internal Reference Output", 13 POUT (power) "Power Output Voltage. Voltage output proportional to source power (input voltage multiplied by load current).", 14 IOUT (out) "Current Output Voltage. Voltage output proportional to VSENSE (VRS+ - VRS-) load current.", 15 RS- (in) "Load-Side Connection for External-Sense Resistor", 16 RS+ (in) "Power Connection to External-Sense Resistor and Internal Resistor-Divider", 17 EP (power) "Exposed Paddle. EP is internally connected to GND."

## MAX4211BETE-T
designator U?
High-Side, Power + Current Monitor with 2 Comparators + Reference, 25 V / V Gain, -40 to 85 degC, 16-Pin QFN (T1644-4), Tape and Reel; PartNumber: MAX4211BETE-T; Bi-Dir. Curr. Sense: No; Gain: 16.67 V/V, 25 V/V ,40.96 V/V; DatasheetVersion: Rev. 1; PackageVersion: Rev. L, 04/2012; PackageReference: T1644-4; PackageDescription: 16-Pin Thin Quad Flatpack, No Leads (T1644-4), Body 4 x 4 mm, Pitch 0.65 mm; Supplier 1: Digi-Key; Supplier Part Number 1: MAX4211BETE-T-ND; Supplier 2: Mouser; Supplier Part Number 2: 700-MAX4211BETE-T-; Mounting Technology: Surface Mount; Code_JEDEC: MO220; ComponentLink1Description: Manufacturer URL; ComponentLink1URL: http://www.maximintegrated.com/; ComponentLink2Description: Datasheet; ComponentLink2URL: http://datasheets.maximintegrated.com/en/ds/MAX4210-MAX4211.pdf; ComponentLink3Description: Package Specification; ComponentLink3URL: http://pdfserv.maximintegrated.com/package_dwgs/21-0139.PDF
footprint MAXM-T1644-4_N (QFN, 16-Leads, Body 4x4mm, Pitch 0.65mm, Thermal Pad 2.1x2.1mm, IPC Medium Density)
footprint MAXM-T1644-4_L (QFN, 16-Leads, Body 4x4mm, Pitch 0.65mm, Thermal Pad 2.1x2.1mm, IPC High Density)
footprint MAXM-T1644-4_M (QFN, 16-Leads, Body 4x4mm, Pitch 0.65mm, Thermal Pad 2.1x2.1mm, IPC Low Density)
pins: 1 VCC (power) "Power-Supply Voltage. Connect a 0.1µF bypass capacitor from VCC to GND.", 2 NC "No Connection. Not internally connected.", 3 LE (in) "Latch Enable for Comparator 1. Driving logic low makes the comparator transparent (regular comparator). Driving logic high latches the output.", 4 COUT1 (oc) "Open- Drain Comparator 1 Output. LE  and  INHIBIT control  the comparator 1 output.", 5 INHIBIT (in) "INHIBIT for Comparator 1 Output. Driving logic high inhibits the comparator operation. Drive logic low for normal operation.", 6 COUT2 (oc) "Open-Drain Comparator 2 Output", 7 GND (power) "Ground", 8 CIN2+ (in) "Comparator 2 Positive Input", 9 CIN2- (in) "Comparator 2 Negative Input", 10 CIN1+ (in) "Comparator 1 Positive Input", 11 CIN1- (in) "Comparator 1 Negative Input", 12 REF (out) "1.21V Internal Reference Output", 13 POUT (power) "Power Output Voltage. Voltage output proportional to source power (input voltage multiplied by load current).", 14 IOUT (out) "Current Output Voltage. Voltage output proportional to VSENSE (VRS+ - VRS-) load current.", 15 RS- (in) "Load-Side Connection for External-Sense Resistor", 16 RS+ (in) "Power Connection to External-Sense Resistor and Internal Resistor-Divider", 17 EP (power) "Exposed Paddle. EP is internally connected to GND."

## MAX4211BEUE
designator U?
High-Side, Power + Current Monitor with 2 Comparators + Reference, 25 V / V Gain, -40 to 85 degC, 16-Pin SOP (U16-2); PartNumber: MAX4211BEUE; Bi-Dir. Curr. Sense: No; Gain: 16.67 V/V, 25 V/V ,40.96 V/V; DatasheetVersion: Rev. 1; PackageVersion: Rev. L, 07/2010; PackageReference: U16-2; PackageDescription: 16-Pin Thin Shrink Small-Outline Package, Body 4.4 x 5 mm, Pitch 0.65 mm; Supplier 1: Digi-Key; Supplier Part Number 1: MAX4211BEUE-ND; Supplier 2: Mouser; Supplier Part Number 2: 700-MAX4211BEUE-NR; Mounting Technology: Surface Mount; Code_JEDEC: MO-153; ComponentLink1Description: Manufacturer URL; ComponentLink1URL: http://www.maximintegrated.com/; ComponentLink2Description: Datasheet; ComponentLink2URL: http://datasheets.maximintegrated.com/en/ds/MAX4210-MAX4211.pdf; ComponentLink3Description: Package Specification; ComponentLink3URL: http://pdfserv.maximintegrated.com/package_dwgs/21-0066.PDF
footprint MAXM-U16-2_N (SOP, 16-Leads, Body 5x4.4mm, Pitch 0.65mm, IPC Medium Density)
footprint MAXM-U16-2_L (SOP, 16-Leads, Body 5x4.4mm, Pitch 0.65mm, IPC High Density)
footprint MAXM-U16-2_M (SOP, 16-Leads, Body 5x4.4mm, Pitch 0.65mm, IPC Low Density)
pins: 1 RS- (in) "Load-Side Connection for External-Sense Resistor", 2 RS+ (in) "Power Connection to External-Sense Resistor and Internal Resistor-Divider", 3 VCC (power) "Power-Supply Voltage. Connect a 0.1µF bypass capacitor from VCC to GND.", 4 NC "No Connection. Not internally connected.", 5 LE (in) "Latch Enable for Comparator 1. Driving logic low makes the comparator transparent (regular comparator). Driving logic high latches the output.", 6 COUT1 (oc) "Open- Drain Comparator 1 Output. LE  and  INHIBIT control  the comparator 1 output.", 7 INHIBIT (in) "INHIBIT for Comparator 1 Output. Driving logic high inhibits the comparator operation. Drive logic low for normal operation.", 8 COUT2 (oc) "Open-Drain Comparator 2 Output", 9 GND (power) "Ground", 10 CIN2+ (in) "Comparator 2 Positive Input", 11 CIN2- (in) "Comparator 2 Negative Input", 12 CIN1+ (in) "Comparator 1 Positive Input", 13 CIN1- (in) "Comparator 1 Negative Input", 14 REF (out) "1.21V Internal Reference Output", 15 POUT (power) "Power Output Voltage. Voltage output proportional to source power (input voltage multiplied by load current).", 16 IOUT (out) "Current Output Voltage. Voltage output proportional to VSENSE (VRS+ - VRS-) load current."

## MAX4211BEUE+
designator U?
High-Side, Power + Current Monitor with 2 Comparators + Reference, 25 V / V Gain, -40 to 85 degC, 16-Pin SOP (U16+2), Pb-Free; PartNumber: MAX4211BEUE+; Bi-Dir. Curr. Sense: No; Gain: 16.67 V/V, 25 V/V ,40.96 V/V; DatasheetVersion: Rev. 1; PackageVersion: Rev. L, 07/2010; PackageReference: U16+2; PackageDescription: 16-Pin Thin Shrink Small-Outline Package (U16+2), Body 5 x 4.4 mm, Pitch 0.65 mm; Supplier 1: Digi-Key; Supplier Part Number 1: MAX4211BEUE+-ND; Supplier 2: Farnell; Supplier Part Number 2: 2212275; Supplier 3: Newark; Supplier Part Number 3: 45W6317; Supplier 4: Mouser; Supplier Part Number 4: 700-MAX4211BEUE; Mounting Technology: Surface Mount; Code_JEDEC: MO-153; ComponentLink1Description: Manufacturer URL; ComponentLink1URL: http://www.maximintegrated.com/; ComponentLink2Description: Datasheet; ComponentLink2URL: http://datasheets.maximintegrated.com/en/ds/MAX4210-MAX4211.pdf; ComponentLink3Description: Package Specification; ComponentLink3URL: http://pdfserv.maximintegrated.com/package_dwgs/21-0066.PDF
footprint MAXM-U16+2_N (SOP, 16-Leads, Body 5x4.4mm, Pitch 0.65mm, IPC Medium Density)
footprint MAXM-U16+2_L (SOP, 16-Leads, Body 5x4.4mm, Pitch 0.65mm, IPC High Density)
footprint MAXM-U16+2_M (SOP, 16-Leads, Body 5x4.4mm, Pitch 0.65mm, IPC Low Density)
pins: 1 RS- (in) "Load-Side Connection for External-Sense Resistor", 2 RS+ (in) "Power Connection to External-Sense Resistor and Internal Resistor-Divider", 3 VCC (power) "Power-Supply Voltage. Connect a 0.1µF bypass capacitor from VCC to GND.", 4 NC "No Connection. Not internally connected.", 5 LE (in) "Latch Enable for Comparator 1. Driving logic low makes the comparator transparent (regular comparator). Driving logic high latches the output.", 6 COUT1 (oc) "Open- Drain Comparator 1 Output. LE  and  INHIBIT control  the comparator 1 output.", 7 INHIBIT (in) "INHIBIT for Comparator 1 Output. Driving logic high inhibits the comparator operation. Drive logic low for normal operation.", 8 COUT2 (oc) "Open-Drain Comparator 2 Output", 9 GND (power) "Ground", 10 CIN2+ (in) "Comparator 2 Positive Input", 11 CIN2- (in) "Comparator 2 Negative Input", 12 CIN1+ (in) "Comparator 1 Positive Input", 13 CIN1- (in) "Comparator 1 Negative Input", 14 REF (out) "1.21V Internal Reference Output", 15 POUT (power) "Power Output Voltage. Voltage output proportional to source power (input voltage multiplied by load current).", 16 IOUT (out) "Current Output Voltage. Voltage output proportional to VSENSE (VRS+ - VRS-) load current."

## MAX4211BEUE+T
designator U?
High-Side, Power + Current Monitor with 2 Comparators + Reference, 25 V / V Gain, -40 to 85 degC, 16-Pin SOP (U16+2), Pb-Free, Tape and Reel; PartNumber: MAX4211BEUE+T; Bi-Dir. Curr. Sense: No; Gain: 16.67 V/V, 25 V/V ,40.96 V/V; DatasheetVersion: Rev. 1; PackageVersion: Rev. L, 07/2010; PackageReference: U16+2; PackageDescription: 16-Pin Thin Shrink Small-Outline Package (U16+2), Body 5 x 4.4 mm, Pitch 0.65 mm; Supplier 1: Digi-Key; Supplier Part Number 1: MAX4211BEUE+T-ND; Supplier 2: Mouser; Supplier Part Number 2: 700-MAX4211BEUET; Mounting Technology: Surface Mount; Code_JEDEC: MO-153; ComponentLink1Description: Manufacturer URL; ComponentLink1URL: http://www.maximintegrated.com/; ComponentLink2Description: Datasheet; ComponentLink2URL: http://datasheets.maximintegrated.com/en/ds/MAX4210-MAX4211.pdf; ComponentLink3Description: Package Specification; ComponentLink3URL: http://pdfserv.maximintegrated.com/package_dwgs/21-0066.PDF
footprint MAXM-U16+2_N (SOP, 16-Leads, Body 5x4.4mm, Pitch 0.65mm, IPC Medium Density)
footprint MAXM-U16+2_L (SOP, 16-Leads, Body 5x4.4mm, Pitch 0.65mm, IPC High Density)
footprint MAXM-U16+2_M (SOP, 16-Leads, Body 5x4.4mm, Pitch 0.65mm, IPC Low Density)
pins: 1 RS- (in) "Load-Side Connection for External-Sense Resistor", 2 RS+ (in) "Power Connection to External-Sense Resistor and Internal Resistor-Divider", 3 VCC (power) "Power-Supply Voltage. Connect a 0.1µF bypass capacitor from VCC to GND.", 4 NC "No Connection. Not internally connected.", 5 LE (in) "Latch Enable for Comparator 1. Driving logic low makes the comparator transparent (regular comparator). Driving logic high latches the output.", 6 COUT1 (oc) "Open- Drain Comparator 1 Output. LE  and  INHIBIT control  the comparator 1 output.", 7 INHIBIT (in) "INHIBIT for Comparator 1 Output. Driving logic high inhibits the comparator operation. Drive logic low for normal operation.", 8 COUT2 (oc) "Open-Drain Comparator 2 Output", 9 GND (power) "Ground", 10 CIN2+ (in) "Comparator 2 Positive Input", 11 CIN2- (in) "Comparator 2 Negative Input", 12 CIN1+ (in) "Comparator 1 Positive Input", 13 CIN1- (in) "Comparator 1 Negative Input", 14 REF (out) "1.21V Internal Reference Output", 15 POUT (power) "Power Output Voltage. Voltage output proportional to source power (input voltage multiplied by load current).", 16 IOUT (out) "Current Output Voltage. Voltage output proportional to VSENSE (VRS+ - VRS-) load current."

## MAX4211BEUE-T
designator U?
High-Side, Power + Current Monitor with 2 Comparators + Reference, 25 V / V Gain, -40 to 85 degC, 16-Pin SOP (U16-2), Tape and Reel; PartNumber: MAX4211BEUE-T; Bi-Dir. Curr. Sense: No; Gain: 16.67 V/V, 25 V/V ,40.96 V/V; DatasheetVersion: Rev. 1; PackageVersion: Rev. L, 07/2010; PackageReference: U16-2; PackageDescription: 16-Pin Thin Shrink Small-Outline Package, Body 4.4 x 5 mm, Pitch 0.65 mm; Supplier 1: Digi-Key; Supplier Part Number 1: MAX4211BEUE-T-ND; Supplier 2: Mouser; Supplier Part Number 2: 700-MAX4211BEUE-T-NR; Mounting Technology: Surface Mount; Code_JEDEC: MO-153; ComponentLink1Description: Manufacturer URL; ComponentLink1URL: http://www.maximintegrated.com/; ComponentLink2Description: Datasheet; ComponentLink2URL: http://datasheets.maximintegrated.com/en/ds/MAX4210-MAX4211.pdf; ComponentLink3Description: Package Specification; ComponentLink3URL: http://pdfserv.maximintegrated.com/package_dwgs/21-0066.PDF
footprint MAXM-U16-2_N (SOP, 16-Leads, Body 5x4.4mm, Pitch 0.65mm, IPC Medium Density)
footprint MAXM-U16-2_L (SOP, 16-Leads, Body 5x4.4mm, Pitch 0.65mm, IPC High Density)
footprint MAXM-U16-2_M (SOP, 16-Leads, Body 5x4.4mm, Pitch 0.65mm, IPC Low Density)
pins: 1 RS- (in) "Load-Side Connection for External-Sense Resistor", 2 RS+ (in) "Power Connection to External-Sense Resistor and Internal Resistor-Divider", 3 VCC (power) "Power-Supply Voltage. Connect a 0.1µF bypass capacitor from VCC to GND.", 4 NC "No Connection. Not internally connected.", 5 LE (in) "Latch Enable for Comparator 1. Driving logic low makes the comparator transparent (regular comparator). Driving logic high latches the output.", 6 COUT1 (oc) "Open- Drain Comparator 1 Output. LE  and  INHIBIT control  the comparator 1 output.", 7 INHIBIT (in) "INHIBIT for Comparator 1 Output. Driving logic high inhibits the comparator operation. Drive logic low for normal operation.", 8 COUT2 (oc) "Open-Drain Comparator 2 Output", 9 GND (power) "Ground", 10 CIN2+ (in) "Comparator 2 Positive Input", 11 CIN2- (in) "Comparator 2 Negative Input", 12 CIN1+ (in) "Comparator 1 Positive Input", 13 CIN1- (in) "Comparator 1 Negative Input", 14 REF (out) "1.21V Internal Reference Output", 15 POUT (power) "Power Output Voltage. Voltage output proportional to source power (input voltage multiplied by load current).", 16 IOUT (out) "Current Output Voltage. Voltage output proportional to VSENSE (VRS+ - VRS-) load current."

## MAX4372FEBT+T
designator U?
Micropower, Voltage-Output, High-Side, Current-Sense Amplifier, 50 V / V Gain, -40 to +85 degC, 5-Pin BGA (B6+2), Pb-Free, Tape and Reel; PartNumber: MAX4372FEBT+T; Bi-Dir. Curr. Sense: No; Gain: 20 V/V, 50 V/V ,100 V/V; DatasheetVersion: Rev. 5; PackageVersion: Rev. H, 09/2009; PackageReference: B6+2; PackageDescription: 6-Pin Ultra Chip-Scale Package, Body 1 x 1.52 mm, Pitch 0.5 mm; Supplier 1: Digi-Key; Supplier Part Number 1: MAX4372FEBT+T-ND; Supplier 2: Mouser; Supplier Part Number 2: 700-MAX4372FEBT+T; Mounting Technology: Surface Mount; ComponentLink1Description: Manufacturer URL; ComponentLink1URL: http://www.maximintegrated.com/; ComponentLink2Description: Datasheet; ComponentLink2URL: http://datasheets.maximintegrated.com/en/ds/MAX4372-MAX4372T.pdf; ComponentLink3Description: Package Specification; ComponentLink3URL: http://pdfserv.maximintegrated.com/package_dwgs/21-0097.PDF
footprint MAXM-B6+2 (BGA, 5-Balls, Body 1.52x1mm, Pitch 0.5mm)
pins: A1 VCC (power) "Supply Voltage. Use at least a 0.1uF capacitor to decouple VCC from fast transients.", A2 GND (power) "Ground", A3 OUT (out) "Output Voltage. VOUT is proportional to the magnitude of VSENSE (VRS+ - VRS-).", B1 RS+ (in) "Power Connection to the External Sense Resistor", B3 RS- (in) "Load-side connection to the external sense resistor"

## MAX4372FEBT+TG45
designator U?
Micropower, Voltage-Output, High-Side, Current-Sense Amplifier, 50 V / V Gain, -40 to 85 degC, 5-Pin BGA (B6+2), Pb-Free; PartNumber: MAX4372FEBT+TG45; Bi-Dir. Curr. Sense: No; Gain: 20 V/V, 50 V/V ,100 V/V; DatasheetVersion: Rev. 5; PackageVersion: Rev. H, 09/2009; PackageReference: B6+2; PackageDescription: 6-Pin Ultra Chip-Scale Package, Body 1 x 1.52 mm, Pitch 0.5 mm; Supplier 1: Mouser; Supplier Part Number 1: N/A; Mounting Technology: Surface Mount; ComponentLink1Description: Manufacturer URL; ComponentLink1URL: http://www.maximintegrated.com/; ComponentLink2Description: Datasheet; ComponentLink2URL: http://datasheets.maximintegrated.com/en/ds/MAX4372-MAX4372T.pdf; ComponentLink3Description: Package Specification; ComponentLink3URL: http://pdfserv.maximintegrated.com/package_dwgs/21-0097.PDF
footprint MAXM-B6+2 (BGA, 5-Balls, Body 1.52x1mm, Pitch 0.5mm)
pins: A1 VCC (power) "Supply Voltage. Use at least a 0.1uF capacitor to decouple VCC from fast transients.", A2 GND (power) "Ground", A3 OUT (out) "Output Voltage. VOUT is proportional to the magnitude of VSENSE (VRS+ - VRS-).", B1 RS+ (in) "Power Connection to the External Sense Resistor", B3 RS- (in) "Load-side connection to the external sense resistor"